# Altium footprint library 2020-01-08_00-59-00.PcbLib: 3 footprints
Each footprint in its own frame and in the unit in brackets; x right, y up, seen from the top. Pads: shape width x height; smd on the part's side, far side on the other; paste and mask are expansions set on the pad; w line width, h text height; cw(c..) or ccw(c..) is an arc to the next point about the centre after c.
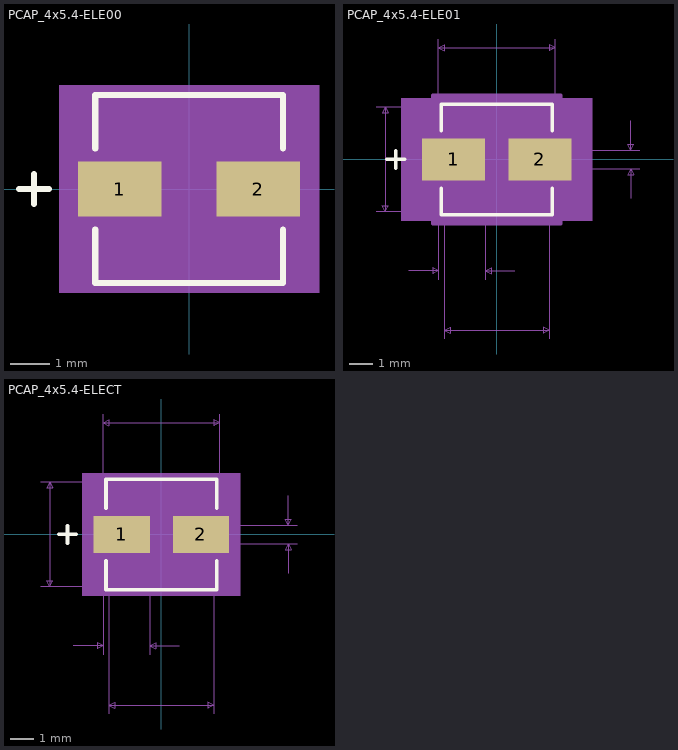
[diagram p0: the footprints below, top view; thin cyan lines are the x and y axes]

## PCAP_4x5.4-ELE00 [mil]
pads (2):
  rect 83x55 smd paste+0 mask+0: 1(-69,0) 2(69,0)
Top Overlay:
  lines w6: -169.5,0 -139.5,0 ; -154.5,-15 -154.5,15 ; -93.5,-40.6 -93.5,-93.5 93.5,-93.5 93.5,-40.6 ; -93.5,40.6 -93.5,93.5 93.5,93.5 93.5,40.6
Mechanical 5:
  region: 129.5,-103.5 -129.5,-103.5 -129.5,103.5 129.5,103.5
Mechanical 13:
  lines w1: -169.5,0 -139.5,0 ; -154.5,-15 -154.5,15 ; -88.5,-44.25 -44.25,-88.5 ; -88.5,44.25 -44.25,88.5 ; -88.5,-88.5 88.5,-88.5 88.5,88.5 -88.5,88.5 -88.5,-88.5
Mechanical 15:
  region: -92.5,-31.5 -114.5,-31.5 -114.5,31.5 -92.5,31.5 -92.5,92.5 92.5,92.5 92.5,31.5 114.5,31.5 114.5,-31.5 92.5,-31.5 92.5,-92.5 -92.5,-92.5
  lines w6: -114.5,-31.5 -114.5,31.5 -92.5,31.5 -92.5,92.5 92.5,92.5 92.5,31.5 114.5,31.5 114.5,-31.5 92.5,-31.5 92.5,-92.5 -92.5,-92.5 -92.5,-31.5 -114.5,-31.5
3D body: height 10, standoff 0, extent 0,0 10,10

## PCAP_4x5.4-ELE01 [mil]
pads (2):
  rect 107x71 smd paste+0 mask+0: 1(-73,0) 2(73,0)
Top Overlay:
  lines w6: -185.5,0 -155.5,0 ; -170.5,-15 -170.5,15 ; -93.5,-48.6 -93.5,-93.5 93.5,-93.5 93.5,-48.6 ; -93.5,48.6 -93.5,93.5 93.5,93.5 93.5,48.6
Mechanical 5:
  region: 161.5,-103.5 -161.5,-103.5 -161.5,103.5 161.5,103.5
Mechanical 7:
  lines w1: -203.5,-88.5 -88.5,-88.5 -88.5,-303.5 ; -203.5,88.5 -88.5,88.5 ; -148.5,-188.5 -98.5,-188.5 ; -98.5,-203.5 -98.5,-45.5 ; -98.5,45.5 -98.5,203.5 ; -19.5,-203.5 -19.5,-25.5 ; 30.5,-188.5 -19.5,-188.5 ; 88.5,-303.5 88.5,-88.5 ; 98.5,45.5 98.5,203.5 ; 136.5,-15.5 241.5,-15.5 ; 136.5,15.5 241.5,15.5 ; 226.5,-65.5 226.5,-15.5 ; 226.5,65.5 226.5,15.5 ; -188.5,-88.5 -188.5,88.5 ; -188.5,-88.5 -193.5,-78.5 -183.5,-78.5 -188.5,-88.5 ; -188.5,88.5 -193.5,78.5 -183.5,78.5 -188.5,88.5 ; -98.5,-188.5 -108.5,-183.5 -108.5,-193.5 -98.5,-188.5 ; -98.5,188.5 98.5,188.5 ; -98.5,188.5 -88.5,193.5 -88.5,183.5 -98.5,188.5 ; -88.5,-288.5 88.5,-288.5 ; -88.5,-288.5 -78.5,-283.5 -78.5,-293.5 -88.5,-288.5 ; -19.5,-188.5 -9.5,-183.5 -9.5,-193.5 -19.5,-188.5 ; 88.5,-288.5 78.5,-283.5 78.5,-293.5 88.5,-288.5 ; 98.5,188.5 88.5,193.5 88.5,183.5 98.5,188.5 ; 226.5,-15.5 221.5,-25.5 231.5,-25.5 226.5,-15.5 ; 226.5,15.5 221.5,25.5 231.5,25.5 226.5,15.5
  text "Default Padstyle: RX107Y71D0T" at -362.5,-439.5 h50
  text "Alternate 1 Padstyle: OX60Y90D30P" at -412.5,-539.5 h50
  text "Alternate 2 Padstyle: OX90Y60D30P" at -412.5,-639.5 h50
  text "0.031in/0.787mm" at 246.5,-12.5 h25
  text "0.197in/5.004mm" at -93.75,208.5 h25
  text "0.177in/4.496mm" at -396,-12.5 h25
  text "0.079in/2.007mm" at -152.75,-233.5 h25
  text "0.177in/4.496mm" at -93.75,-333.5 h25
Mechanical 13:
  lines w1: -185.5,0 -155.5,0 ; -170.5,-15 -170.5,15 ; -88.5,-44.25 -44.25,-88.5 ; -88.5,44.25 -44.25,88.5 ; -88.5,-88.5 88.5,-88.5 88.5,88.5 -88.5,88.5 -88.5,-88.5
Mechanical 15:
  region: -108.5,-55.5 -146.5,-55.5 -146.5,55.5 -108.5,55.5 -108.5,108.5 108.5,108.5 108.5,55.5 146.5,55.5 146.5,-55.5 108.5,-55.5 108.5,-108.5 -108.5,-108.5
  lines w6: -146.5,-55.5 -146.5,55.5 -108.5,55.5 -108.5,108.5 108.5,108.5 108.5,55.5 146.5,55.5 146.5,-55.5 108.5,-55.5 108.5,-108.5 -108.5,-108.5 -108.5,-55.5 -146.5,-55.5
3D body: height 10, standoff 0, extent 0,0 10,10

## PCAP_4x5.4-ELECT [mil]
pads (2):
  rect 95x63 smd: 1(-67,0) 2(67,0)
Top Overlay:
  lines w6: -173.5,0 -143.5,0 ; -158.5,-15 -158.5,15 ; -93.5,-44.6 -93.5,-93.5 93.5,-93.5 93.5,-44.6 ; -93.5,44.6 -93.5,93.5 93.5,93.5 93.5,44.6
Mechanical 5:
  region: 133.5,-103.5 -133.5,-103.5 -133.5,103.5 133.5,103.5
Mechanical 7:
  lines w1: -203.5,-88.5 -88.5,-88.5 -88.5,-303.5 ; -203.5,88.5 -88.5,88.5 ; -148.5,-188.5 -98.5,-188.5 ; -98.5,-203.5 -98.5,-41.5 ; -98.5,41.5 -98.5,203.5 ; -19.5,-203.5 -19.5,-21.5 ; 30.5,-188.5 -19.5,-188.5 ; 88.5,-303.5 88.5,-88.5 ; 98.5,41.5 98.5,203.5 ; 124.5,-15.5 229.5,-15.5 ; 124.5,15.5 229.5,15.5 ; 214.5,-65.5 214.5,-15.5 ; 214.5,65.5 214.5,15.5 ; -188.5,-88.5 -188.5,88.5 ; -188.5,-88.5 -193.5,-78.5 -183.5,-78.5 -188.5,-88.5 ; -188.5,88.5 -193.5,78.5 -183.5,78.5 -188.5,88.5 ; -98.5,-188.5 -108.5,-183.5 -108.5,-193.5 -98.5,-188.5 ; -98.5,188.5 98.5,188.5 ; -98.5,188.5 -88.5,193.5 -88.5,183.5 -98.5,188.5 ; -88.5,-288.5 88.5,-288.5 ; -88.5,-288.5 -78.5,-283.5 -78.5,-293.5 -88.5,-288.5 ; -19.5,-188.5 -9.5,-183.5 -9.5,-193.5 -19.5,-188.5 ; 88.5,-288.5 78.5,-283.5 78.5,-293.5 88.5,-288.5 ; 98.5,188.5 88.5,193.5 88.5,183.5 98.5,188.5 ; 214.5,-15.5 209.5,-25.5 219.5,-25.5 214.5,-15.5 ; 214.5,15.5 209.5,25.5 219.5,25.5 214.5,15.5
  text "Default Padstyle: RX95Y63D0T" at -350,-443.5 h50
  text "Alternate 1 Padstyle: OX60Y90D30P" at -412.5,-543.5 h50
  text "Alternate 2 Padstyle: OX90Y60D30P" at -412.5,-643.5 h50
  text "0.031in/0.787mm" at 234.5,-12.5 h25
  text "0.197in/5.004mm" at -93.75,208.5 h25
  text "0.177in/4.496mm" at -396,-12.5 h25
  text "0.079in/2.007mm" at -152.75,-233.5 h25
  text "0.177in/4.496mm" at -93.75,-333.5 h25
Mechanical 13:
  lines w1: -173.5,0 -143.5,0 ; -158.5,-15 -158.5,15 ; -88.5,-44.25 -44.25,-88.5 ; -88.5,44.25 -44.25,88.5 ; -88.5,-88.5 88.5,-88.5 88.5,88.5 -88.5,88.5 -88.5,-88.5
Mechanical 15:
  region: -92.5,-35.5 -118.5,-35.5 -118.5,35.5 -92.5,35.5 -92.5,92.5 92.5,92.5 92.5,35.5 118.5,35.5 118.5,-35.5 92.5,-35.5 92.5,-92.5 -92.5,-92.5
  lines w6: -118.5,-35.5 -118.5,35.5 -92.5,35.5 -92.5,92.5 92.5,92.5 92.5,35.5 118.5,35.5 118.5,-35.5 92.5,-35.5 92.5,-92.5 -92.5,-92.5 -92.5,-35.5 -118.5,-35.5
3D body: height 10, standoff 0, extent 0,0 10,10